# Altium footprint library IPEX_MHF.PcbLib: 1 footprints
Each footprint in its own frame and in the unit in brackets; x right, y up, seen from the top. Pads: shape width x height; smd on the part's side, far side on the other; paste and mask are expansions set on the pad; w line width, h text height; cw(c..) or ccw(c..) is an arc to the next point about the centre after c.
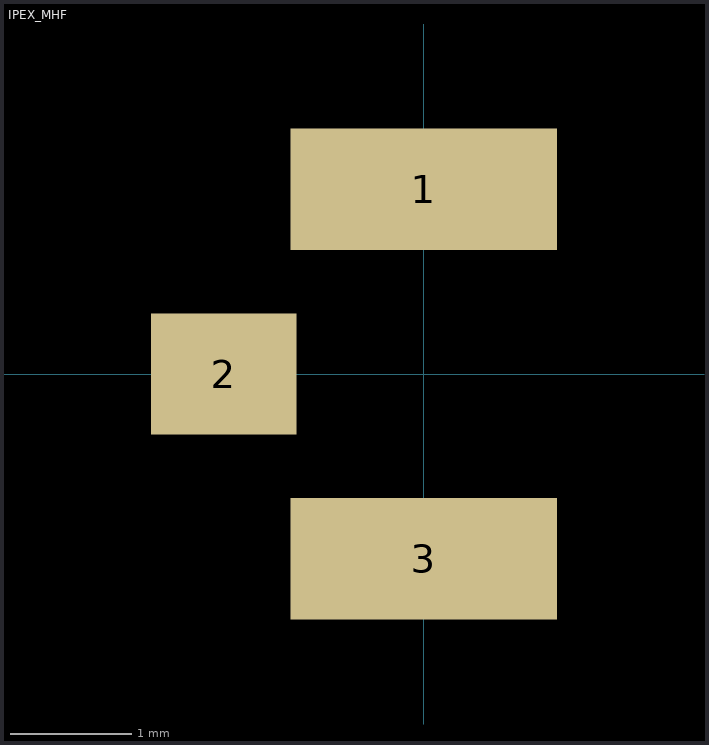
[diagram p0: the footprint, top view; thin cyan lines are the x and y axes]

## IPEX_MHF [mm] "3x3мм"
pads (3):
  rect 2.2x1 smd: 1(0,1.524) 3(0,-1.524)
  rect 1.2x1 smd: 2(-1.651,0)
3D body "IPEX_MHF.step": height 1.25, standoff -0.01, extent -1.55,-1.5 1.55,1.5